# Altium schematic symbol library B43659A5217M057.SchLib: 1 symbol
Pins are listed as number, name and electrical type; pins without a type are passive.

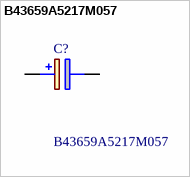
[diagram p0: symbol B43659A5217M057]

## B43659A5217M057
designator C?
Aluminum Electrolytic Capacitors - Snap In 450V, 210uF (M), d25,4x25 mm; Manufacturer_Name: TDK; Geometry.Height: 27.5mm; Mouser Part Number: 871-B43659A5217M057; Mouser Price/Stock: https://www.mouser.co.uk/ProductDetail/EPCOS-TDK/B43659A5217M057?qs=Z%252BL2brAPG1LcXCgV6MqERQ%3D%3D; Manufacturer_Part_Number: B43659A5217M057; Datasheet Link: https://product.tdk.com/system/files/dam/doc/product/capacitor/aluminum-electrolytic/snap-in/data_sheet/20/30/db/aec/b43659.pdf?ref_disty=mouser
footprint B43659A5217M057
pins: 1 +, 2 -